# Altium footprint library DPAK_N.PcbLib: 35 footprints (part 2 of 3)
Each footprint in its own frame and in the unit in brackets; x right, y up, seen from the top. Pads: shape width x height; smd on the part's side, far side on the other; paste and mask are expansions set on the pad; w line width, h text height; cw(c..) or ccw(c..) is an arc to the next point about the centre after c.
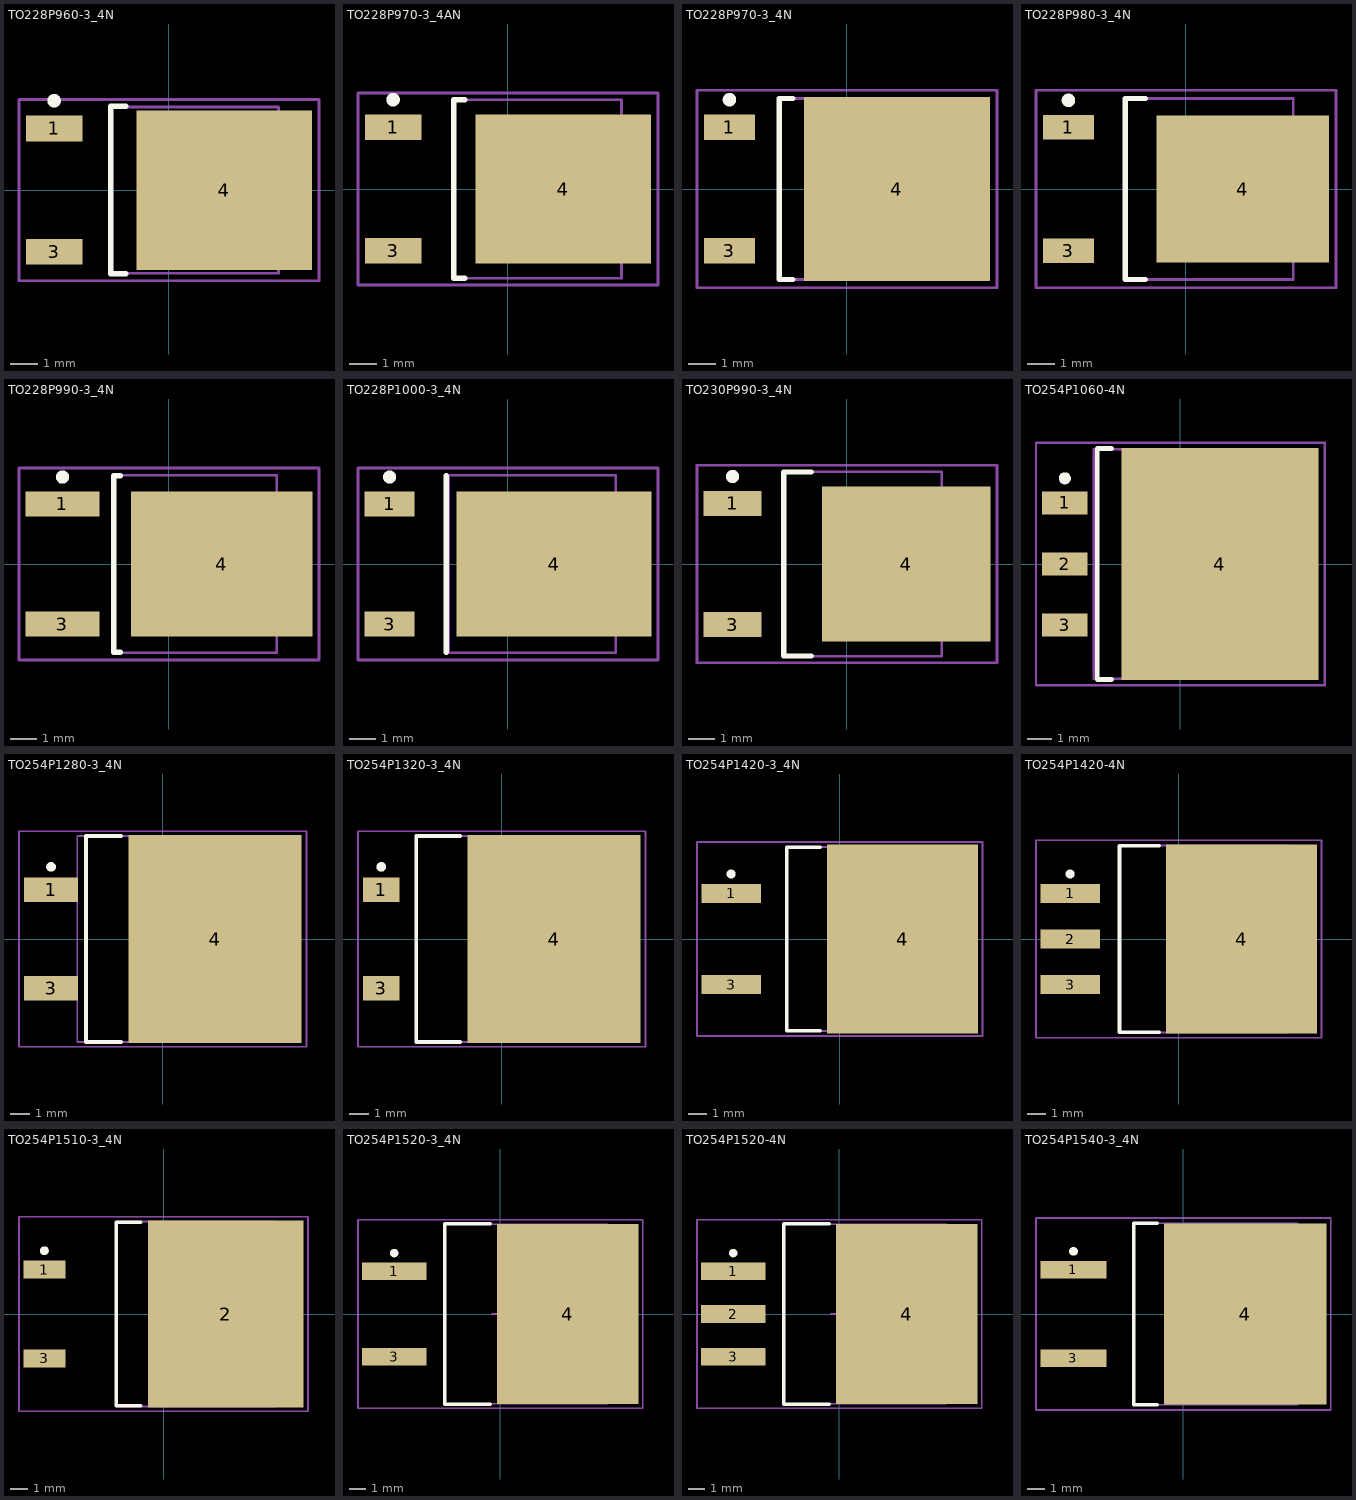
[diagram p1: the footprints below, top view; thin cyan lines are the x and y axes]

## TO228P960-3_4N [mm] "D-PAK, 4-Leads, Body 6.1x6mm, Pitch 2.28mm, Lead Span 9.7mm, IPC Medium Density"
height 2.03
pads (3):
  rect 2.1x0.95 smd: 1(-4.25,2.28) 3(-4.25,-2.28)
  rect 6.5x5.9 smd: 4(2.05,0)
Top Overlay:
  circle w0.25: c-4.25,3.305 r0.125
  lines w0.2: -1.6,-3.1 -2.15,-3.1 -2.15,3.1 -1.6,3.1
Mechanical 13:
  lines w0.1: -2.15,-3.075 4.05,-3.075 4.05,3.075 -2.15,3.075 -2.15,-3.075
Mechanical 15:
  lines w0.1: -0.5,0 0.5,0 ; 0,-0.5 0,0.5 ; -5.55,-3.35 5.55,-3.35 5.55,3.35 -5.55,3.35 -5.55,-3.35
3D body: height 2.03, standoff 0, extent -2.15,-3.075 4.05,3.075

## TO228P970-3_4AN [mm] "D-PAK, 4-Leads, Body 6.1x6.5mm, Pitch 2.28mm, Lead Span 9.7mm, IPC Medium Density"
height 2.4
pads (3):
  rect 2.1x0.95 smd: 1(-4.25,2.28) 3(-4.25,-2.28)
  rect 6.5x5.5 smd: 4(2.05,0)
Top Overlay:
  circle w0.25: c-4.25,3.305 r0.125
  lines w0.2: -1.6,-3.3 -2,-3.3 -2,3.3 -1.6,3.3
Mechanical 13:
  lines w0.1: -2,-3.3 4.2,-3.3 4.2,3.3 -2,3.3 -2,-3.3
Mechanical 15:
  lines w0.1: -0.5,0 0.5,0 ; 0,-0.5 0,0.5 ; -5.55,-3.55 5.55,-3.55 5.55,3.55 -5.55,3.55 -5.55,-3.55
3D body: height 2.4, standoff 0, extent -2,-3.3 4.2,3.3

## TO228P970-3_4N [mm] "D-PAK, 4-Leads, Body 6.1x6.5mm, Pitch 2.28mm, Lead Span 9.7mm, IPC Medium Density"
height 2.38
pads (3):
  rect 1.9x0.95 smd: 1(-4.35,2.28) 3(-4.35,-2.28)
  rect 6.9x6.8 smd: 4(1.85,0)
Top Overlay:
  circle w0.25: c-4.35,3.305 r0.125
  lines w0.2: -2,-3.35 -2.5,-3.35 -2.5,3.35 -2,3.35
Mechanical 13:
  lines w0.1: -2.5,-3.35 3.7,-3.35 3.7,3.35 -2.5,3.35 -2.5,-3.35
Mechanical 15:
  lines w0.1: -0.5,0 0.5,0 ; 0,-0.5 0,0.5 ; -5.55,-3.65 5.55,-3.65 5.55,3.65 -5.55,3.65 -5.55,-3.65
3D body: height 2.38, standoff 0, extent -2.5,-3.35 3.7,3.35

## TO228P980-3_4N [mm] "D-PAK, 4-Leads, Body 6.1x6.6mm, Pitch 2.28mm, Lead Span 9.8mm, IPC Medium Density"
height 2.38
pads (3):
  rect 1.9x0.9 smd: 1(-4.35,2.28) 3(-4.35,-2.28)
  rect 6.4x5.45 smd: 4(2.1,0)
Top Overlay:
  circle w0.25: c-4.35,3.28 r0.125
  lines w0.2: -1.5,-3.35 -2.25,-3.35 -2.25,3.35 -1.5,3.35
Mechanical 13:
  lines w0.1: -2.25,-3.35 3.97,-3.35 3.97,3.35 -2.25,3.35 -2.25,-3.35
Mechanical 15:
  lines w0.1: -0.5,0 0.5,0 ; 0,-0.5 0,0.5 ; -5.55,-3.65 5.55,-3.65 5.55,3.65 -5.55,3.65 -5.55,-3.65
3D body: height 2.38, standoff 0, extent -2.25,-3.35 3.97,3.35

## TO228P990-3_4N [mm] "D-PAK, 4-Leads, Body 6.1x6.5mm, Pitch 2.28mm, Lead Span 9.9mm, IPC Medium Density"
height 2.39
pads (3):
  rect 2.8x0.95 smd: 1(-4.05,2.28) 3(-4.05,-2.28)
  rect 6.9x5.5 smd: 4(2,0)
Top Overlay:
  circle w0.25: c-4.05,3.305 r0.125
  lines w0.2: -1.85,-3.35 -2.1,-3.35 -2.1,3.35 -1.85,3.35
Mechanical 13:
  lines w0.1: -2.1,-3.375 4.1,-3.375 4.1,3.375 -2.1,3.375 -2.1,-3.375
Mechanical 15:
  lines w0.1: -0.5,0 0.5,0 ; 0,-0.5 0,0.5 ; -5.7,-3.65 5.7,-3.65 5.7,3.65 -5.7,3.65 -5.7,-3.65
3D body: height 2.39, standoff 0, extent -2.1,-3.375 4.1,3.375

## TO228P1000-3_4N [mm] "D-PAK, 4-Leads, Body 6.2x6.5mm, Pitch 2.28mm, Lead Span 9.9mm, IPC Medium Density"
height 2.39
pads (3):
  rect 1.9x0.95 smd: 1(-4.5,2.28) 3(-4.5,-2.28)
  rect 7.4x5.5 smd: 4(1.75,0)
Top Overlay:
  circle w0.25: c-4.5,3.305 r0.125
  lines w0.2: -2.35,-3.35 -2.35,3.35
Mechanical 13:
  lines w0.1: -2.25,-3.375 4.1,-3.375 4.1,3.375 -2.25,3.375 -2.25,-3.375
Mechanical 15:
  lines w0.1: -0.5,0 0.5,0 ; 0,-0.5 0,0.5 ; -5.7,-3.65 5.7,-3.65 5.7,3.65 -5.7,3.65 -5.7,-3.65
3D body: height 2.39, standoff 0, extent -2.25,-3.375 4.1,3.375

## TO230P990-3_4N [mm] "D-PAK, 4-Leads, Body 6x7mm, Pitch 2.3mm, Lead Span 9.9mm, IPC Medium Density"
height 2.8
pads (3):
  rect 2.2x0.95 smd: 1(-4.35,2.3) 3(-4.35,-2.3)
  rect 6.4x5.9 smd: 4(2.25,0)
Top Overlay:
  circle w0.25: c-4.35,3.325 r0.125
  lines w0.2: -1.35,-3.5 -2.4,-3.5 -2.4,3.5 -1.35,3.5
Mechanical 13:
  lines w0.1: -2.4,-3.5 3.6,-3.5 3.6,3.5 -2.4,3.5 -2.4,-3.5
Mechanical 15:
  lines w0.1: -0.5,0 0.5,0 ; 0,-0.5 0,0.5 ; -5.7,-3.75 5.7,-3.75 5.7,3.75 -5.7,3.75 -5.7,-3.75
3D body: height 2.8, standoff 0, extent -2.4,-3.5 3.6,3.5

## TO254P1060-4N [mm] "D-PAK, 4-Leads, Body 8x9.4mm, Pitch 2.54mm, Lead Span 10.6mm, IPC Medium Density"
height 2.05
pads (4):
  rect 1.9x0.95 smd: 1(-4.8,2.54) 2(-4.8,0) 3(-4.8,-2.54)
  rect 8.2x9.65 smd: 4(1.65,0)
Top Overlay:
  circle w0.25: c-4.8,3.565 r0.125
  lines w0.2: -2.85,-4.8 -3.45,-4.8 -3.45,4.8 -2.85,4.8
Mechanical 13:
  lines w0.1: -3.6,-4.775 4.55,-4.775 4.55,4.775 -3.6,4.775 -3.6,-4.775
Mechanical 15:
  lines w0.1: -0.5,0 0.5,0 ; 0,-0.5 0,0.5 ; -6,-5.05 6,-5.05 6,5.05 -6,5.05 -6,-5.05
3D body: height 2.05, standoff 0, extent -3.6,-4.775 4.55,4.775

## TO254P1280-3_4N [mm] "TO, 4-Leads, Body 9.6x10.2mm, Pitch 2.54mm, Lead Span 12.8mm, IPC Medium Density"
height 5.1
pads (3):
  rect 2.8x1.25 smd: 1(-5.75,2.54) 3(-5.75,-2.54)
  rect 8.9x10.7 smd: 4(2.7,0)
Top Overlay:
  circle w0.25: c-5.75,3.715 r0.125
  lines w0.2: -2.15,-5.3 -3.95,-5.3 -3.95,5.3 -2.15,5.3
Mechanical 13:
  lines w0.1: -4.4,-5.3 5.2,-5.3 5.2,5.3 -4.4,5.3 -4.4,-5.3
Mechanical 15:
  lines w0.1: -0.5,0 0.5,0 ; 0,-0.5 0,0.5 ; -7.4,-5.55 7.4,-5.55 7.4,5.55 -7.4,5.55 -7.4,-5.55
3D body: height 5.1, standoff 0, extent -4.4,-5.3 5.2,5.3

## TO254P1320-3_4N [mm] "TO, 4-Leads, Body 9.6x10.2mm, Pitch 2.54mm, Lead Span 13.2mm, IPC Medium Density"
height 5.1
pads (3):
  rect 1.9x1.25 smd: 1(-6.2,2.54) 3(-6.2,-2.54)
  rect 8.9x10.7 smd: 4(2.7,0)
Top Overlay:
  circle w0.25: c-6.2,3.715 r0.125
  lines w0.2: -2.15,-5.3 -4.4,-5.3 -4.4,5.3 -2.15,5.3
Mechanical 13:
  lines w0.1: -4.4,-5.3 5.2,-5.3 5.2,5.3 -4.4,5.3 -4.4,-5.3
Mechanical 15:
  lines w0.1: -0.5,0 0.5,0 ; 0,-0.5 0,0.5 ; -7.4,-5.55 7.4,-5.55 7.4,5.55 -7.4,5.55 -7.4,-5.55
3D body: height 5.1, standoff 0, extent -4.4,-5.3 5.2,5.3

## TO254P1420-3_4N [mm] "D2-PAK, 4-Leads, Body 9.2x10mm, Pitch 2.54mm, Lead Span 14.2mm, IPC Medium Density"
height 4.57
pads (3):
  rect 3.3x1.05 smd: 1(-6.05,2.54) 3(-6.05,-2.54)
  rect 8.4x10.5 smd: 4(3.5,0)
Top Overlay:
  circle w0.25: c-6.05,3.615 r0.125
  lines w0.2: -1.1,-5.1 -2.95,-5.1 -2.95,5.1 -1.1,5.1
Mechanical 13:
  lines w0.1: -2.95,-5.125 6.4,-5.125 6.4,5.125 -2.95,5.125 -2.95,-5.125
Mechanical 15:
  lines w0.1: -0.5,0 0.5,0 ; 0,-0.5 0,0.5 ; -7.95,-5.4 7.95,-5.4 7.95,5.4 -7.95,5.4 -7.95,-5.4
3D body: height 4.57, standoff 0, extent -2.95,-5.125 6.4,5.125

## TO254P1420-4N [mm] "D2-PAK, 4-Leads, Body 8.9x10.1mm, Pitch 2.54mm, Lead Span 14.2mm, IPC Medium Density"
height 4.65
pads (4):
  rect 3.3x1.05 smd: 1(-6.05,2.54) 2(-6.05,0) 3(-6.05,-2.54)
  rect 8.4x10.5 smd: 4(3.5,0)
Top Overlay:
  circle w0.25: c-6.05,3.615 r0.125
  lines w0.2: -1.1,-5.2 -3.3,-5.2 -3.3,5.2 -1.1,5.2
Mechanical 13:
  lines w0.1: -3.3,-5.2 6.1,-5.2 6.1,5.2 -3.3,5.2 -3.3,-5.2
Mechanical 15:
  lines w0.1: -0.5,0 0.5,0 ; 0,-0.5 0,0.5 ; -7.95,-5.5 7.95,-5.5 7.95,5.5 -7.95,5.5 -7.95,-5.5
3D body: height 4.65, standoff 0, extent -3.3,-5.2 6.1,5.2

## TO254P1510-3_4N [mm] "D2-PAK, 4-Leads, Body 8.8x10.4mm, Pitch 2.54mm, Lead Span 15.1mm, IPC Medium Density"
height 4.69
pads (3):
  rect 2.4x1.05 smd: 1(-6.8,2.54) 3(-6.8,-2.54)
  rect 8.9x10.65 smd: 2(3.55,0)
Top Overlay:
  circle w0.25: c-6.8,3.615 r0.125
  lines w0.2: -1.3,-5.25 -2.7,-5.25 -2.7,5.25 -1.3,5.25
Mechanical 13:
  lines w0.1: -2.7,-5.275 6.3,-5.275 6.3,5.275 -2.7,5.275 -2.7,-5.275
Mechanical 15:
  lines w0.1: -0.5,0 0.5,0 ; 0,-0.5 0,0.5 ; -8.25,-5.55 8.25,-5.55 8.25,5.55 -8.25,5.55 -8.25,-5.55
3D body: height 4.69, standoff 0, extent -2.7,-5.275 6.3,5.275

## TO254P1520-3_4N [mm] "D2-PAK, 4-Leads, Body 9x10.2mm, Pitch 2.54mm, Lead Span 15.2mm, IPC Medium Density"
height 4.83
pads (3):
  rect 3.8x1.05 smd: 1(-6.3,2.54) 3(-6.3,-2.54)
  rect 8.4x10.7 smd: 4(4,0)
Top Overlay:
  circle w0.25: c-6.3,3.615 r0.125
  lines w0.2: -0.6,-5.35 -3.3,-5.35 -3.3,5.35 -0.6,5.35
Mechanical 13:
  lines w0.1: -3.3,-5.325 6.35,-5.325 6.35,5.325 -3.3,5.325 -3.3,-5.325
Mechanical 15:
  lines w0.1: -0.5,0 0.5,0 ; 0,-0.5 0,0.5 ; -8.45,-5.6 8.45,-5.6 8.45,5.6 -8.45,5.6 -8.45,-5.6
3D body: height 4.83, standoff 0, extent -3.3,-5.325 6.35,5.325

## TO254P1520-4N [mm] "D2-PAK, 4-Leads, Body 9x10.2mm, Pitch 2.54mm, Lead Span 15.2mm, IPC Medium Density"
height 4.83
pads (4):
  rect 3.8x1.05 smd: 1(-6.3,2.54) 2(-6.3,0) 3(-6.3,-2.54)
  rect 8.4x10.7 smd: 4(4,0)
Top Overlay:
  circle w0.25: c-6.3,3.615 r0.125
  lines w0.2: -0.6,-5.35 -3.3,-5.35 -3.3,5.35 -0.6,5.35
Mechanical 13:
  lines w0.1: -3.3,-5.325 6.35,-5.325 6.35,5.325 -3.3,5.325 -3.3,-5.325
Mechanical 15:
  lines w0.1: -0.5,0 0.5,0 ; 0,-0.5 0,0.5 ; -8.45,-5.6 8.45,-5.6 8.45,5.6 -8.45,5.6 -8.45,-5.6
3D body: height 4.83, standoff 0, extent -3.3,-5.325 6.35,5.325

## TO254P1540-3_4N [mm] "D2-PAK, 4-Leads, Body 9.2x10.2mm, Pitch 2.54mm, Lead Span 15.4mm, IPC Medium Density"
height 4.6
pads (3):
  rect 3.8x1 smd: 1(-6.3,2.54) 3(-6.3,-2.54)
  rect 9.3x10.4 smd: 4(3.55,0)
Top Overlay:
  circle w0.25: c-6.3,3.59 r0.125
  lines w0.2: -1.5,-5.2 -2.85,-5.2 -2.85,5.2 -1.5,5.2
Mechanical 13:
  lines w0.1: -2.85,-5.2 6.55,-5.2 6.55,5.2 -2.85,5.2 -2.85,-5.2
Mechanical 15:
  lines w0.1: -0.5,0 0.5,0 ; 0,-0.5 0,0.5 ; -8.45,-5.5 8.45,-5.5 8.45,5.5 -8.45,5.5 -8.45,-5.5
3D body: height 4.6, standoff 0, extent -2.85,-5.2 6.55,5.2